# Altium footprint library Ind_Murata_LQM21FN100M70L_eec_IPC_A.PcbLib: 1 footprints
Each footprint in its own frame and in the unit in brackets; x right, y up, seen from the top. Pads: shape width x height; smd on the part's side, far side on the other; paste and mask are expansions set on the pad; w line width, h text height; cw(c..) or ccw(c..) is an arc to the next point about the centre after c.
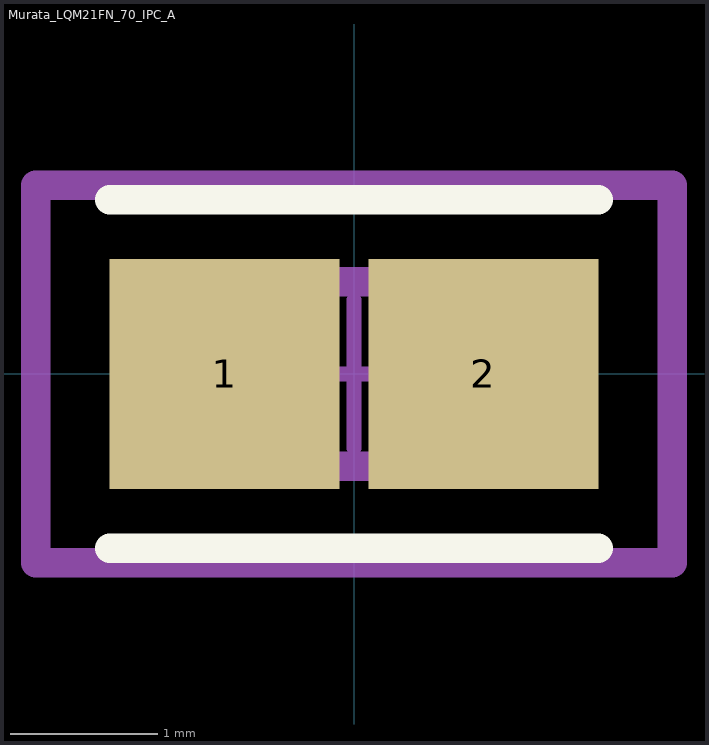
[diagram p0: the footprint, top view; thin cyan lines are the x and y axes]

## Murata_LQM21FN_70_IPC_A [mm]
pads (2):
  rect 1.554x1.556 smd paste+0 mask+0: 1(-0.876,0) 2(0.876,0)
Top Overlay:
  lines w0.2: -1.653,-1.178 1.653,-1.178 ; -1.653,1.178 1.653,1.178
Mechanical 10:
  lines w0.2: -2.153,-1.278 2.153,-1.278 2.153,1.278 -2.153,1.278 -2.153,-1.278
  text ".Designator" at 0,0.188 h1
Mechanical 12:
  lines w0.2: -1,-0.625 1,-0.625 1,0.625 -1,0.625 -1,-0.625
Mechanical 15:
  lines w0.1: -0.5,0 0.5,0 ; 0,-0.5 0,0.5
  lines w0.2: -2.153,-1.278 2.153,-1.278 2.153,1.278 -2.153,1.278 -2.153,-1.278
3D body "Ind_Murata_LQM21FN100M70L_eec.STEP": height 0.25, standoff 0, extent -2.153,-1.278 2.153,1.278